# Altium schematic symbol library SCH - POWER - LINEAR VREG - TI LP3982IMM-1.8.SchLib: 1 symbol
Pins are listed as number, name and electrical type; pins without a type are passive.

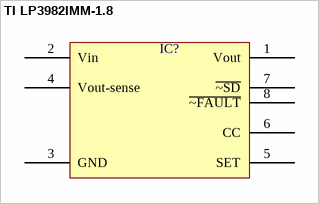
[diagram p0: symbol TI LP3982IMM-1.8]

## TI LP3982IMM-1.8
designator IC?  (value not drawn)
pins: 1 Vout, 2 Vin, 3 GND, 4 Vout-sense, 5 SET, 6 CC, 7 ~{~SD}, 8 ~{~FAULT}